# Altium integrated library Integrated_Library1.IntLib: 7 symbols
Pins are listed as number, name and electrical type; pins without a type are passive.

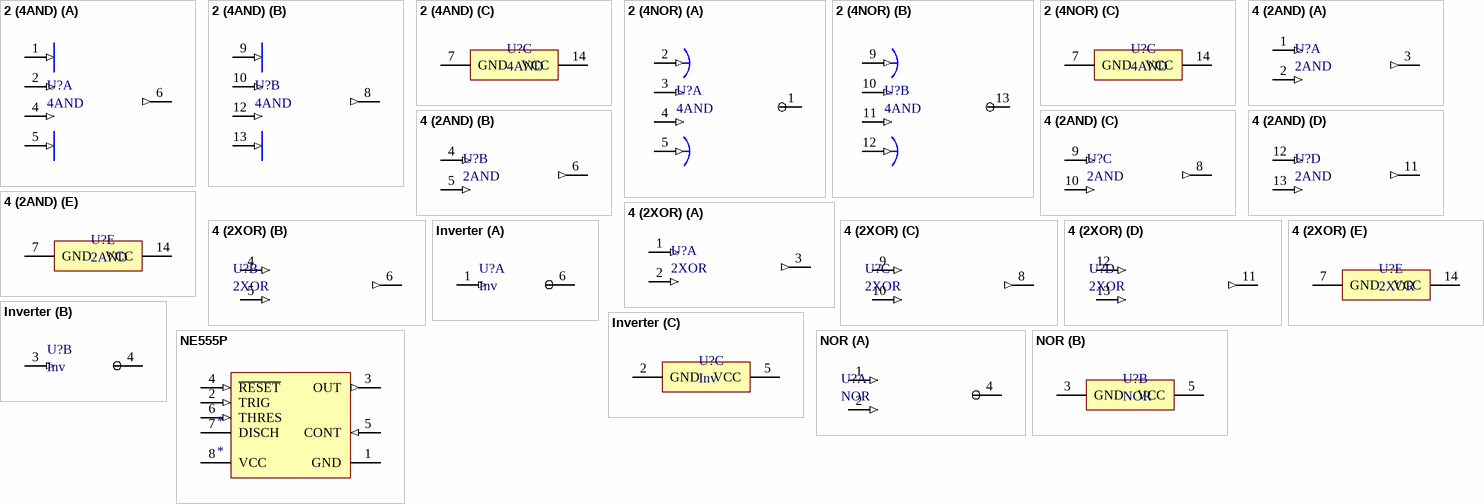
[diagram p0: symbols 2 (4AND) to NOR]

## 2 (4AND)
designator U?, comment 4AND
Chip&Dip: https://www.chipdip.ru/product/74hc21d.653
footprint SOIC-14
part A pins: 1 A (in), 2 B (in), 4 C (in), 5 D (in), 6 Y (out)
part B pins: 8 Y (out), 9 A (in), 10 B (in), 12 C (in), 13 D (in)
part C pins: 7 GND, 14 VCC

## 2 (4NOR)
designator U?, comment 4AND
Chip&Dip: https://www.chipdip.ru/product/74hc4002d
footprint SOIC-14
part A pins: 1 Y, 2 A (in), 3 B (in), 4 C (in), 5 D (in)
part B pins: 9 A (in), 10 B (in), 11 C (in), 12 D (in), 13 Y
part C pins: 7 GND, 14 VCC

## 4 (2AND)
designator U?, comment 2AND
Chip&Dip: https://www.chipdip.ru/product/sn74ac08dr
footprint SOIC-14
part A pins: 1 A (in), 2 B (in), 3 Y (out)
part B pins: 4 A (in), 5 B (in), 6 Y (out)
part C pins: 8 Y (out), 9 A (in), 10 B (in)
part D pins: 11 Y (out), 12 A (in), 13 B (in)
part E pins: 7 GND, 14 VCC

## 4 (2XOR)
designator U?, comment 2XOR
Chip&Dip: https://www.chipdip.ru/product/74hc86d
footprint SOIC-14
part A pins: 1 A (in), 2 B (in), 3 Y (out)
part B pins: 4 A (in), 5 B (in), 6 Y (out)
part C pins: 8 Y (out), 9 A (in), 10 B (in)
part D pins: 11 Y (out), 12 A (in), 13 B (in)
part E pins: 7 GND, 14 VCC

## Inverter
designator U?, comment Inv
Chip&Dip: https://www.chipdip.ru/product/sn74lvc2g04dbvr-2
footprint SOT236
part A pins: 1 A (in), 6 Y
part B pins: 3 A (in), 4 Y
part C pins: 2 GND, 5 VCC

## NE555P
designator *
Standard Timer Single 8-Pin PDIP Tube; Manufacturer: Texas Instruments; Manufacturer Part Number: NE555P; Min Supply Voltage: 4.5V; Max Supply Voltage: 16V; Frequency: 500kHz; Number of Timers/Counters: 1; High Level Output Current: -200mA; Low Level Output Current: 200mA; Nominal Supply Current: 2mA; Operating Supply Current: 10mA; Quiescent Current: 15mA; Operating Supply Voltage: 5V; Supplier 1: Digi-Key; RoHS: Yes; Category: Clock and Timing; Pricing 1: 1=0,37000, 10=0,29900, 25=0,27360, 100=0,20350, 250=0,18444, 500=0,15264, 1000=0,11448, 2500=0,10494, 5000=0,10020 (USD); Mount: SMD; Case/Package: PDIP; Number of Pins: 8; Weight: 0.015535oz; Contact Plating: Gold; Min Operating Temperature: 0°C; Max Operating Temperature: 70°C; Packaging: Rail/Tube; Package Quantity: 50; Current Rating: 10mA; Length: 9.81mm; Width: 6.35mm; Height: 4.57mm; Radiation Hardening: No; Lead Free: Lead Free; RoHS Compliant: Yes; REACH SVHC: No SVHC; ComponentLink1URL: https://datasheet.ciiva.com/1139/sa555-1139904.pdf?src-supplier=Element14; ComponentLink1Description: https://datasheet.ciiva.com/1139/sa555-1139904.pdf?src-supplier=Element14; ComponentLink2URL: https://datasheet.ciiva.com/19457/904085-19457361.pdf?src-supplier=Jameco; ComponentLink2Description: https://datasheet.ciiva.com/19457/904085-19457361.pdf?src-supplier=Jameco; ComponentLink3URL: https://datasheet.ciiva.com/26325/152184-da-01-en-ne555p-timer-tid-26325915.pdf?src-supplier=Conrad; ComponentLink3Description: https://datasheet.ciiva.com/26325/152184-da-01-en-ne555p-timer-tid-26325915.pdf?src-supplier=Conrad; ComponentLink4URL: https://datasheet.ciiva.com/1147/1764032-1147750.pdf?src-supplier=Newark; ComponentLink4Description: https://datasheet.ciiva.com/1147/1764032-1147750.pdf?src-supplier=Newark; ComponentLink5URL: https://datasheet.ciiva.com/14094/ne555-series-eng-tds-14094950.pdf?src-supplier=Distrelec; ComponentLink5Description: https://datasheet.ciiva.com/14094/ne555-series-eng-tds-14094950.pdf?src-supplier=Distrelec; ComponentLink6URL: https://datasheet.ciiva.com/14274/ne555-14274456.pdf?src-supplier=Avnet; ComponentLink6Description: https://datasheet.ciiva.com/14274/ne555-14274456.pdf?src-supplier=Avnet; ComponentLink7URL: https://datasheet.ciiva.com/15152/getdatasheetpartid-248510-15152620.pdf?src-supplier=Verical; ComponentLink7Description: https://datasheet.ciiva.com/15152/getdatasheetpartid-248510-15152620.pdf?src-supplier=Verical; ComponentLink8URL: https://datasheet.ciiva.com/1233/ne555-1233454.pdf?src-supplier=Digi-Key; ComponentLink8Description: https://datasheet.ciiva.com/1233/ne555-1233454.pdf?src-supplier=Digi-Key; ComponentLink9URL: https://datasheet.ciiva.com/26228/ne555-26228892.pdf?src-supplier=Avnet+Europe; ComponentLink9Description: https://datasheet.ciiva.com/26228/ne555-26228892.pdf?src-supplier=Avnet+Europe
footprint SOIC-8
pins: 1 GND (power), 2 TRIG (in), 3 OUT (out), 4 ~{RESET} (in), 5 CONT (in), 6 THRES (in), 7 DISCH (oc), 8 VCC (power)

## NOR
designator U?
Chip&Dip: https://www.chipdip.ru/product/sn74lvc1g02dbvr-2
footprint SOT-23-5
part A pins: 1 A (in), 2 B (in), 4 Y
part B pins: 3 GND, 5 VCC